# Altium footprint library SOD128.PcbLib: 1 footprints
Each footprint in its own frame and in the unit in brackets; x right, y up, seen from the top. Pads: shape width x height; smd on the part's side, far side on the other; paste and mask are expansions set on the pad; w line width, h text height; cw(c..) or ccw(c..) is an arc to the next point about the centre after c.
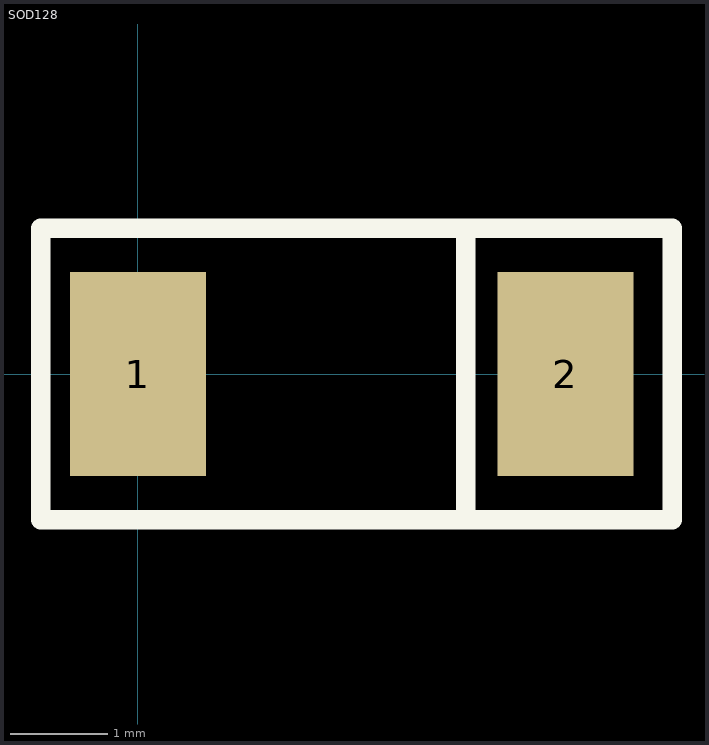
[diagram p0: the footprint, top view; thin cyan lines are the x and y axes]

## SOD128 [mm]
pads (2):
  rect 1.4x2.1 smd: 1(0,0) 2(4.4,0)
Top Overlay:
  lines w0.2: 3.375,-1.5 3.375,1.5 ; -1,-1.5 5.5,-1.5 5.5,1.5 -1,1.5 -1,-1.5
3D body: height 1.11, standoff 0, extent -0.5,-1.35 4.7,1.35